# Altium footprint library DXPpcb.PCBLIB: 575 footprints (part 32 of 36)
Each footprint in its own frame and in the unit in brackets; x right, y up, seen from the top. Pads: shape width x height; smd on the part's side, far side on the other; paste and mask are expansions set on the pad; w line width, h text height; cw(c..) or ccw(c..) is an arc to the next point about the centre after c.
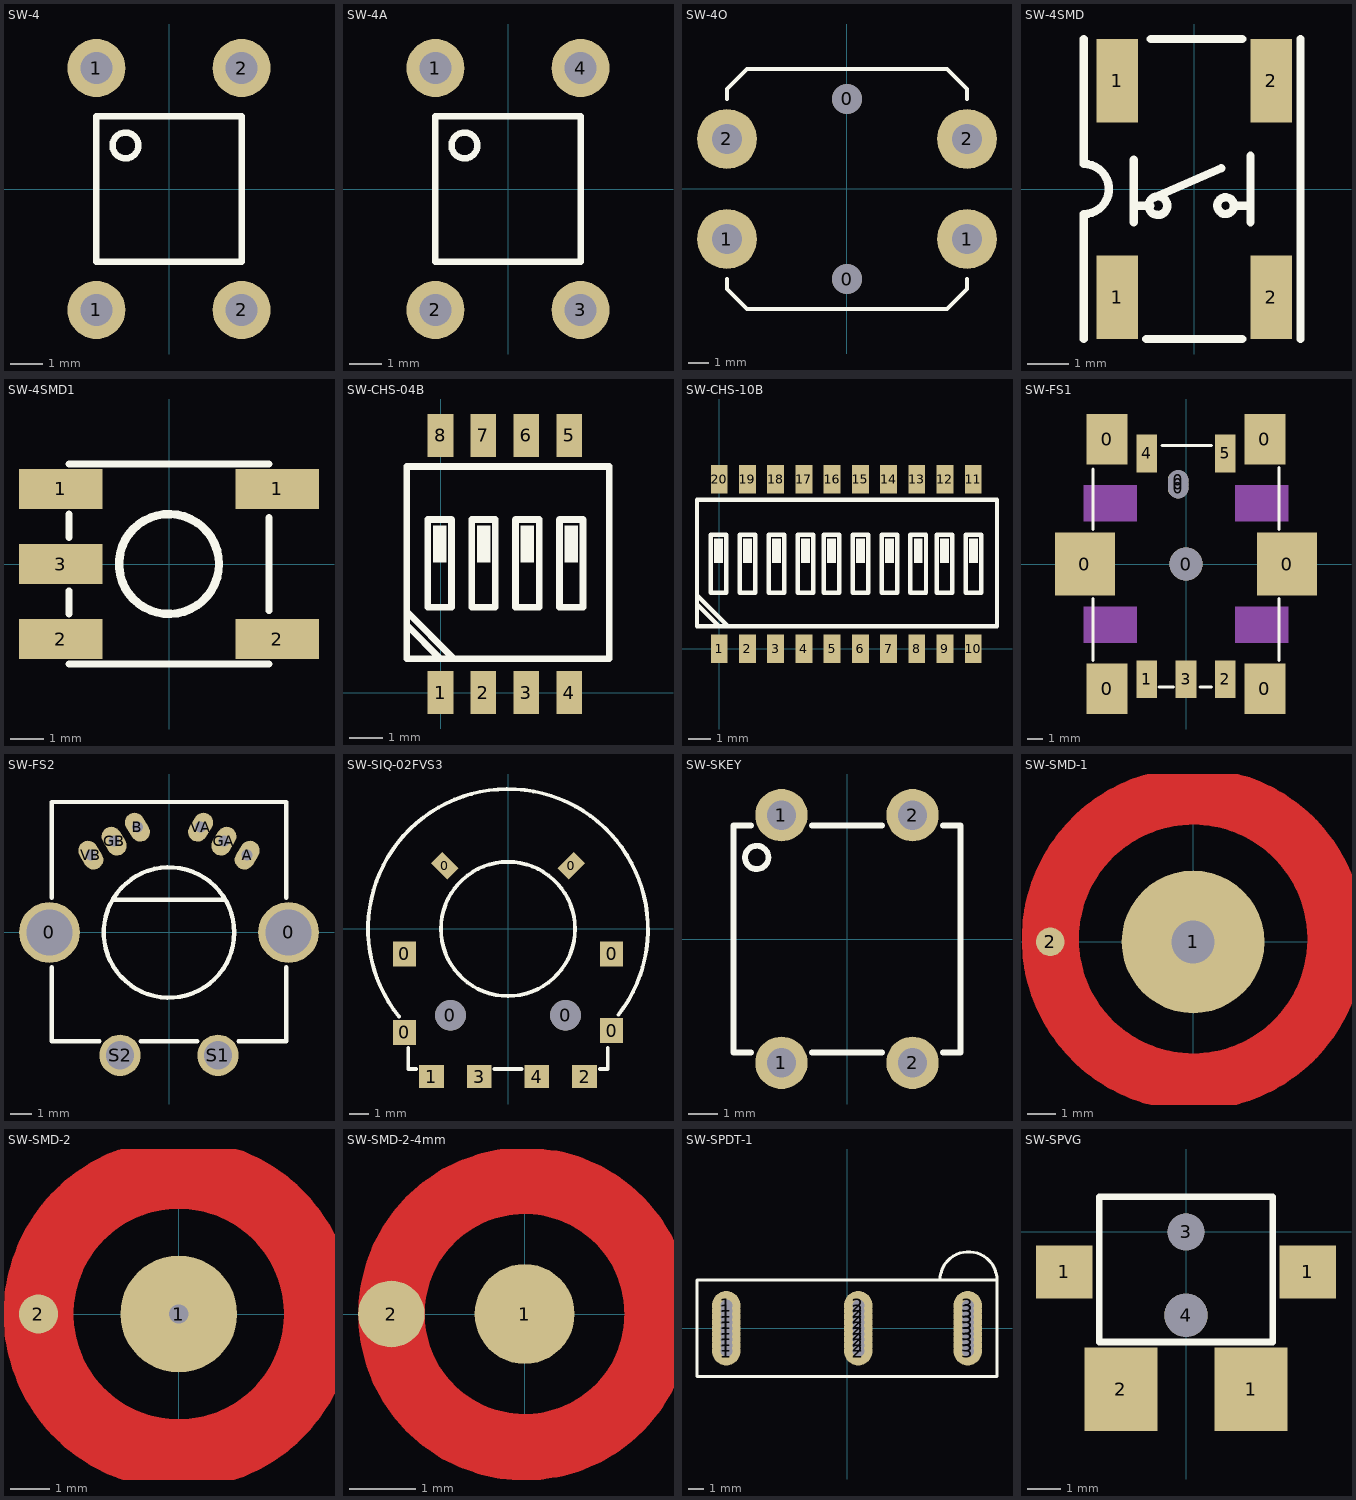
[diagram p31: the footprints below, top view; thin cyan lines are the x and y axes]

## SW-4 [mm]
pads (4):
  round 1.8 hole 1: 1(-2.25,-3.75) 1(-2.25,3.75) 2(2.25,-3.75) 2(2.25,3.75)
TopOverlay:
  circle w0.2: c-1.35,1.35 r0.4
  lines w0.2: -2.25,-2.25 2.25,-2.25 2.25,2.25 -2.25,2.25 -2.25,-2.25

## SW-4A [mm]
pads (4):
  round 1.8 hole 1: 1(-2.25,3.75) 2(-2.25,-3.75) 3(2.25,-3.75) 4(2.25,3.75)
TopOverlay:
  circle w0.2: c-1.35,1.35 r0.4
  lines w0.2: -2.25,-2.25 2.25,-2.25 2.25,2.25 -2.25,2.25 -2.25,-2.25

## SW-4O [mm]
pads (6):
  round 1.5 hole 1.5: 0(0,-4.5) 0(0,4.5)
  round 3 hole 1.5: 1(-6,-2.5) 1(6,-2.5) 2(-6,2.5) 2(6,2.5)
TopOverlay:
  lines w0.2: -6,-4.5 -6,-5 -5,-6 5,-6 6,-5 6,-4.5 ; -6,4.5 -6,5 -5,6 5,6 6,5 6,4.5

## SW-4SMD [mm]
pads (4):
  rect 1x2 smd: 1(-1.85,-2.6) 1(-1.85,2.6) 2(1.85,-2.6) 2(1.85,2.6)
TopOverlay:
  circle w0.2: c-0.874,-0.4 r0.224
  circle w0.2: c0.75,-0.4 r0.2
  lines w0.2: -2.65,-3.6 -2.65,-0.6 ccw(c-2.65,0) -2.65,0.6 -2.65,3.6 ; -1.45,-0.8 -1.45,0.7 ; -1.45,-0.4 -1.05,-0.4 ; -1.15,-3.6 1.15,-3.6 ; -1.05,3.6 1.15,3.6 ; -0.95,-0.2 0.65,0.5 ; 0.95,-0.4 1.35,-0.4 ; 1.35,-0.8 1.35,0.8 ; 2.55,-3.6 2.55,3.6

## SW-4SMD1 [mm]
pads (5):
  rect 2.5x1.2 smd: 1(-3.253,2.251) 1(3.247,2.251) 2(-3.253,-2.249) 2(3.247,-2.249) 3(-3.253,0.001)
TopOverlay:
  circle w0.254: c-0.003,0.001 r1.5
  lines w0.203: -3,-3 3,-3 ; -3,-1.5 -3,-0.8 ; -3,0.8 -3,1.5 ; -3,3 3,3 ; 3,-1.4 3,1.4

## SW-CHS-04B [mm]
pads (8):
  rect 0.76x1.27 smd: 1(0,0) 2(1.27,0) 3(2.54,0) 4(3.81,0) 5(3.81,7.62) 6(2.54,7.62) 7(1.27,7.62) 8(0,7.62)
TopOverlay:
  rectangle: -0.225,3.85 0.175,4.95
  rectangle: 1.075,3.85 1.475,4.95
  rectangle: 2.375,3.85 2.775,4.95
  rectangle: 3.675,3.85 4.075,4.95
  lines w0.2: -1,2 0,1 ; -1,2.4 0.4,1 ; -1,1 0.5,1 5,1 5,6.7 0,6.7 -1,6.7 -1,1 ; -0.375,2.525 0.325,2.525 0.325,5.125 -0.375,5.125 -0.375,2.525 ; 0.925,2.525 1.625,2.525 1.625,5.125 0.925,5.125 0.925,2.525 ; 2.225,2.525 2.925,2.525 2.925,5.125 2.225,5.125 2.225,2.525 ; 3.525,2.525 4.225,2.525 4.225,5.125 3.525,5.125 3.525,2.525

## SW-CHS-10B [mm]
pads (20):
  rect 0.76x1.27 smd: 1(0,0) 2(1.27,0) 3(2.54,0) 4(3.81,0) 5(5.08,0) 6(6.35,0) 7(7.62,0) 8(8.89,0) 9(10.16,0) 10(11.43,0) 11(11.43,7.62) 12(10.16,7.62) 13(8.89,7.62) 14(7.62,7.62) 15(6.35,7.62) 16(5.08,7.62) 17(3.81,7.62) 18(2.54,7.62) 19(1.27,7.62) 20(0,7.62)
TopOverlay:
  rectangle: 3.675,3.85 4.075,4.95
  rectangle: 2.375,3.85 2.775,4.95
  rectangle: 1.075,3.85 1.475,4.95
  rectangle: -0.225,3.85 0.175,4.95
  rectangle: 8.755,3.85 9.155,4.95
  rectangle: 7.455,3.85 7.855,4.95
  rectangle: 6.155,3.85 6.555,4.95
  rectangle: 4.855,3.85 5.255,4.95
  rectangle: 11.235,3.85 11.635,4.95
  rectangle: 9.935,3.85 10.335,4.95
  lines w0.2: -1,2 0,1 ; -1,2.4 0.4,1 ; -1,1 -1,6.7 0,6.7 12.5,6.7 12.5,1 0.5,1 -1,1 ; -0.375,2.525 -0.375,5.125 0.325,5.125 0.325,2.525 -0.375,2.525 ; 0.925,2.525 0.925,5.125 1.625,5.125 1.625,2.525 0.925,2.525 ; 2.225,2.525 2.225,5.125 2.925,5.125 2.925,2.525 2.225,2.525 ; 3.525,2.525 3.525,5.125 4.225,5.125 4.225,2.525 3.525,2.525 ; 4.705,2.525 4.705,5.125 5.405,5.125 5.405,2.525 4.705,2.525 ; 6.005,2.525 6.005,5.125 6.705,5.125 6.705,2.525 6.005,2.525 ; 7.305,2.525 7.305,5.125 8.005,5.125 8.005,2.525 7.305,2.525 ; 8.605,2.525 8.605,5.125 9.305,5.125 9.305,2.525 8.605,2.525 ; 9.785,2.525 9.785,5.125 10.485,5.125 10.485,2.525 9.785,2.525 ; 11.085,2.525 11.085,5.125 11.785,5.125 11.785,2.525 11.085,2.525

## SW-FS1 [mm]
pads (15):
  rect 3.8x4 smd: 0(-6.4,0) 0(6.4,0)
  rect 2.6x3.2 smd: 0(-5,-7.9) 0(-5,7.9) 0(5,-7.9) 0(5,7.9)
  round 1.3 hole 1.3: 0(-0.5,4.8) 0(-0.5,5.05) 0(-0.5,5.3)
  round 2.1 hole 2.1: 0(0,0)
  rect 1.3x2.4 smd: 1(-2.5,-7.3) 2(2.5,-7.3) 3(0,-7.3) 4(-2.5,7) 5(2.5,7)
TopOverlay:
  lines w0.2: -5.9,-6.1 -5.9,-2.2 ; -5.9,2.2 -5.9,6 ; -1.7,-7.8 -0.8,-7.8 ; -1.5,7.5 1.6,7.5 ; 0.9,-7.8 1.6,-7.8 ; 5.9,-6.1 5.9,-2.2 ; 5.9,2.2 5.9,6.1
Mechanical3:
  rectangle: -6.5,2.7 -3.1,5
  region: 6.5,5 3.1,5 3.1,2.7 6.5,2.7
  region: 6.5,-2.7 3.1,-2.7 3.1,-5 6.5,-5
  region: -3.1,-2.7 -6.5,-2.7 -6.5,-5 -3.1,-5

## SW-FS2 [mm]
pads (10):
  round 2.8 hole 2.1: 0(-5.5,0) 0(5.5,0)
  oval 0.9x1.4 hole 0.5 rot 149: A(3.595,3.556) GA(2.524,4.2) VA(1.452,4.844)
  oval 0.9x1.4 hole 0.5 rot 31: B(-1.452,4.844) GB(-2.524,4.2) VB(-3.595,3.556)
  round 1.9 hole 1.3: S1(2.25,-5.65) S2(-2.25,-5.65)
TopOverlay:
  circle w0.2: c0,0 r3
  lines w0.2: -5.4,-1.6 -5.4,-5 -3.2,-5 ; -5.4,1.6 -5.4,6 5.4,6 5.4,1.6 ; -2.6,1.5 2.6,1.5 ; -1.3,-5 1.3,-5 ; 3.2,-5 5.4,-5 5.4,-1.6

## SW-SIQ-02FVS3 [mm]
pads (12):
  rect 1.2x1.3 smd: 0(-5.4,-5.4) 0(-5.4,-1.3) 0(5.4,-5.3) 0(5.4,-1.3)
  rect 0.85x1.2 smd rot 45: 0(-3.3,3.3)
  round 1.6 hole 1.6: 0(-3,-4.5) 0(3,-4.5)
  rect 0.85x1.2 smd rot 135: 0(3.3,3.3)
  rect 1.3x1.2 smd: 1(-4,-7.7) 2(4,-7.7) 3(-1.5,-7.7) 4(1.5,-7.7)
TopOverlay:
  circle w0.2: c0,0 r3.5
  lines w0.2: -5.69,-4.573 cw(c0,0) 5.768,-4.475 ; -5.2,-6.2 -5.2,-7.3 -4.8,-7.3 ; -0.7,-7.3 0.7,-7.3 ; 4.8,-7.3 5.2,-7.3 5.2,-6.2

## SW-SKEY [mm]
pads (4):
  round 1.8 hole 1: 1(-2.25,-4.25) 1(-2.25,4.25) 2(2.25,-4.25) 2(2.25,4.25)
TopOverlay:
  circle w0.2: c-3.1,2.8 r0.4
  lines w0.2: -3.3,-3.9 -3.9,-3.9 -3.9,3.9 -3.3,3.9 ; -1.2,-3.9 1.2,-3.9 ; -1.2,3.9 1.2,3.9 ; 3.3,-3.9 3.9,-3.9 3.9,3.9 3.3,3.9

## SW-SMD-1 [mm]
pads (2):
  round 5 hole 1.5: 1(0,0)
  round 1 smd: 2(-5,0)
TopLayer:
  circle w2: c0,0.1 r5

## SW-SMD-2 [mm]
pads (2):
  round 3 hole 0.5: 1(0,0)
  round 1 smd: 2(-3.6,0)
TopLayer:
  circle w1.8: c0,0 r3.6
TopSolder:
  circle w2: c0,0 r3.6

## SW-SMD-2-4mm [mm]
pads (2):
  round 1.5 smd: 1(0,0)
  round 1 smd: 2(-2,0)
TopLayer:
  circle w1: c0,0 r2
TopSolder:
  circle w1.1: c0,0 r2

## SW-SPDT-1 [mm]
pads (27):
  round 1.905 hole 0.8: 1(-8.05,-1.524) 1(-8.05,-1.143) 1(-8.05,-0.762) 1(-8.05,-0.381) 1(-8.05,0) 1(-8.05,0.381) 1(-8.05,0.762) 1(-8.05,1.143) 1(-8.05,1.524) 2(0.75,-1.524) 2(0.75,-1.143) 2(0.75,-0.762) 2(0.75,-0.381) 2(0.75,0) 2(0.75,0.381) 2(0.75,0.762) 2(0.75,1.143) 2(0.75,1.524) 3(8.05,-1.524) 3(8.05,-1.143) 3(8.05,-0.762) 3(8.05,-0.381) 3(8.05,0) 3(8.05,0.381) 3(8.05,0.762) 3(8.05,1.143) 3(8.05,1.524)
TopOverlay:
  lines w0.2: 6.2,3.2 cw(c8.1,3.2) 10,3.2 ; 10,3.2 -10,3.2 -10,-3.2 10,-3.2 10,3.2

## SW-SPVG [mm]
pads (6):
  rect 1.7x1.6 smd: 1(-3.65,-1.2) 1(3.65,-1.2)
  rect 2.2x2.5 smd: 1(1.95,-4.725) 2(-1.95,-4.725)
  round 1.1 hole 1.1: 3(0,0)
  round 1.3 hole 1.3: 4(0,-2.5)
TopOverlay:
  lines w0.2: -2.6,-3.3 -2.6,1.05 2.6,1.05 2.6,-3.3 -2.6,-3.3